# Altium schematic symbol library ULN2003LV.SchLib: 1 symbol
Pins are listed as number, name and electrical type; pins without a type are passive.

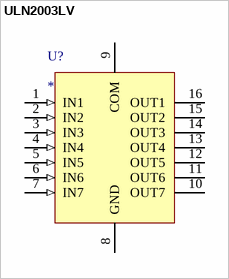
[diagram p0: symbol ULN2003LV]

## ULN2003LV
designator U?
7-channel NMOS Relay Driver with kickback diodes
pins: 1 IN1 (in), 2 IN2 (in), 3 IN3 (in), 4 IN4 (in), 5 IN5 (in), 6 IN6 (in), 7 IN7 (in), 8 GND (power), 9 COM (power), 10 OUT7 (oc), 11 OUT6 (oc), 12 OUT5 (oc), 13 OUT4 (oc), 14 OUT3 (oc), 15 OUT2 (oc), 16 OUT1 (oc)